# Altium footprint library Buzzer.PcbLib: 1 footprints
Each footprint in its own frame and in the unit in brackets; x right, y up, seen from the top. Pads: shape width x height; smd on the part's side, far side on the other; paste and mask are expansions set on the pad; w line width, h text height; cw(c..) or ccw(c..) is an arc to the next point about the centre after c.
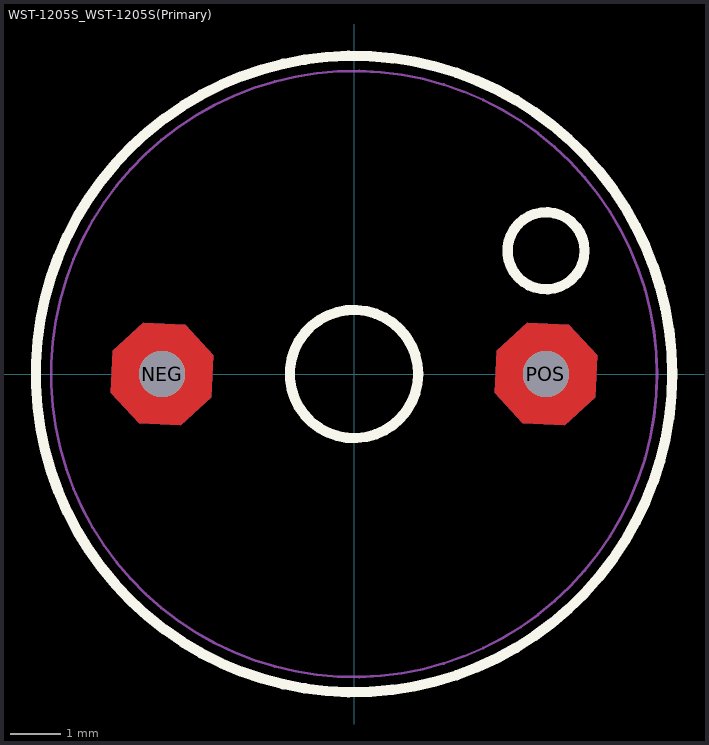
[diagram p0: the footprint, top view; thin cyan lines are the x and y axes]

## WST-1205S_WST-1205S(Primary) [mil]
pads (2):
  round 36 hole 36: NEG(-149.61,0) POS(149.61,0)
Top Layer:
  region: -109.67,14.54 -131.65,38.52 -164.14,39.94 -188.12,17.96 -189.54,-14.54 -167.57,-38.52 -135.07,-39.94 -111.09,-17.96
  region: 189.54,14.54 167.57,38.52 135.07,39.94 111.09,17.96 109.67,-14.54 131.65,-38.52 164.14,-39.94 188.12,-17.96
Bottom Layer:
  region: -109.67,14.54 -131.65,38.52 -164.14,39.94 -188.12,17.96 -189.54,-14.54 -167.57,-38.52 -135.07,-39.94 -111.09,-17.96
  region: 189.54,14.54 167.57,38.52 135.07,39.94 111.09,17.96 109.67,-14.54 131.65,-38.52 164.14,-39.94 188.12,-17.96
Top Overlay:
  circle w8: c149.69,96.06 r30
  circle w8: c0,0 r248.03
  circle w8: c0,0 r50
Mechanical 1:
  circle w2: c0,0 r236.22
Multi-Layer:
  region: -109.67,14.54 -131.65,38.52 -164.14,39.94 -188.12,17.96 -189.54,-14.54 -167.57,-38.52 -135.07,-39.94 -111.09,-17.96
  region: 189.54,14.54 167.57,38.52 135.07,39.94 111.09,17.96 109.67,-14.54 131.65,-38.52 164.14,-39.94 188.12,-17.96
3D body "alsrobot-BUZZER.STEP": height 379.92, standoff -177.17, extent -236.21,-236.22 372.22,236.23